# EAGLE library part MC14029BDR2G (library ON Semiconductor_By_element14_Batch_1)
Binary/Decade Up/Down Counter
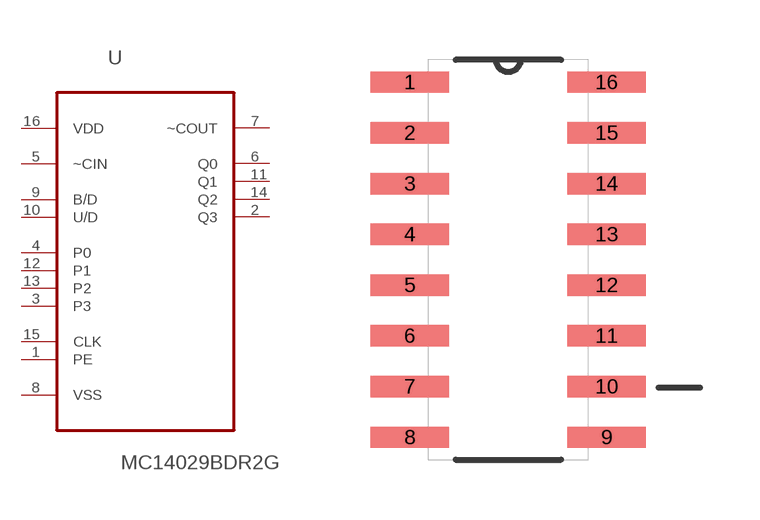
[diagram p223: symbol with the pads of SOIC127P600X175-16N; footprint SOIC127P600X175-16N]

Designator prefix U

## MC14029BDR2G (MPN: MC14029BDR2G; OC_FARNELL: -; OC_NEWARK: 04R7793; P1I: o; PACKAGE: SOIC-16; SUPPLIER: ON SEMICONDUCTOR)  [SOIC127P600X175-16N]
1  PE  in
2  Q3  out
3  P3  in
4  P0  in
5  ~CIN  in
6  Q0  out
7  ~COUT  out
8  VSS  pas
9  B/D  in
10  U/D  in
11  Q1  out
12  P1  in
13  P2  in
14  Q2  out
15  CLK  in
16  VDD  pwr

## Footprint SOIC127P600X175-16N (pad centres in mm)
smd 1.956 x 0.533: 1 -2.464,4.445; 2 -2.464,3.175; 3 -2.464,1.905; 4 -2.464,0.635; 5 -2.464,-0.635; 6 -2.464,-1.905; 7 -2.464,-3.175; 8 -2.464,-4.445; 9 2.464,-4.445; 10 2.464,-3.175; 11 2.464,-1.905; 12 2.464,-0.635; 13 2.464,0.635; 14 2.464,1.905; 15 2.464,3.175; 16 2.464,4.445